# EAGLE library part AD9760ARZ (library AD9760AR-SOIC-28)
DAC, 10BIT, 125MSPS, 0.5LSB, 28SOIC
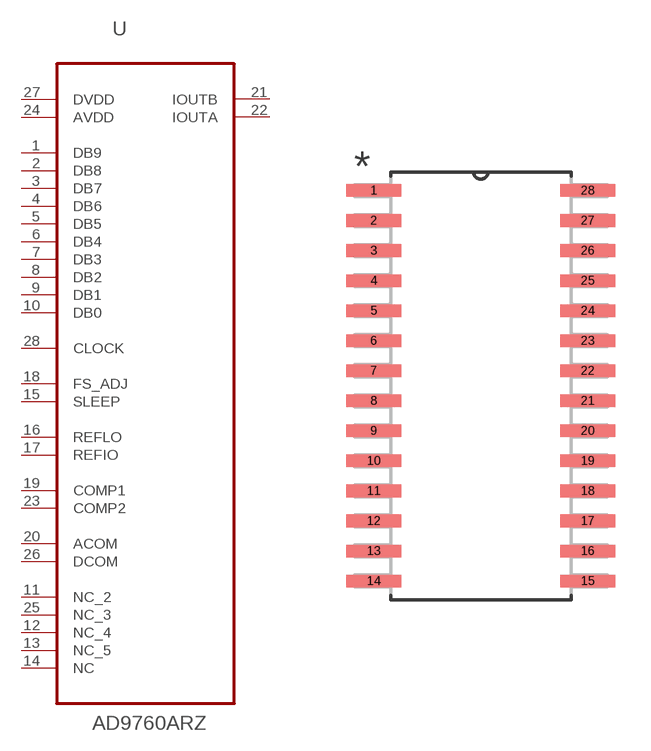
[diagram p0: symbol with the pads of SOIC127P1032X265-28N; footprint SOIC127P1032X265-28N]

Designator prefix U

## AD9760ARZ (MPN: AD9760ARZ; OC_FARNELL: 2305702; OC_NEWARK: 84W7494; PACKAGE: SOIC-28; SUPPLIER: ANALOG DEVICES)  [SOIC127P1032X265-28N]
1  DB9  in
2  DB8  in
3  DB7  in
4  DB6  in
5  DB5  in
6  DB4  in
7  DB3  in
8  DB2  in
9  DB1  in
10  DB0  in
11  NC_2  nc
12  NC_4  nc
13  NC_5  nc
14  NC  nc
15  SLEEP  in
16  REFLO  in
17  REFIO  in
18  FS_ADJ  in
19  COMP1  in
20  ACOM  pas
21  IOUTB  out
22  IOUTA  out
23  COMP2  in
24  AVDD  pwr
25  NC_3  nc
26  DCOM  pas
27  DVDD  pwr
28  CLOCK  in

## Footprint SOIC127P1032X265-28N (pad centres in mm)
smd 2.311 x 0.533: 1 -4.521,8.255; 2 -4.521,6.985; 3 -4.521,5.715; 4 -4.521,4.445; 5 -4.521,3.175; 6 -4.521,1.905; 7 -4.521,0.635; 8 -4.521,-0.635; 9 -4.521,-1.905; 10 -4.521,-3.175; 11 -4.521,-4.445; 12 -4.521,-5.715; 13 -4.521,-6.985; 14 -4.521,-8.255; 15 4.521,-8.255; 16 4.521,-6.985; 17 4.521,-5.715; 18 4.521,-4.445; 19 4.521,-3.175; 20 4.521,-1.905; 21 4.521,-0.635; 22 4.521,0.635; 23 4.521,1.905; 24 4.521,3.175; 25 4.521,4.445; 26 4.521,5.715; 27 4.521,6.985; 28 4.521,8.255